# Altium schematic symbol library TPS645-5NC60.SchLib: 1 symbol
Pins are listed as number, name and electrical type; pins without a type are passive.

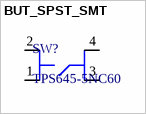
[diagram p0: symbol BUT_SPST_SMT]

## BUT_SPST_SMT
designator SW?, comment TPS645-5NC60
Tactile Switch/Push Button Switch ROHS
footprint TPS645-5NC60 (Tactile Switch/Push Button Switch ROHS)
pins: 1, 2, 3, 4